# Altium footprint library AUVic_PCB_Library_Switches.PcbLib: 4 footprints
Each footprint in its own frame and in the unit in brackets; x right, y up, seen from the top. Pads: shape width x height; smd on the part's side, far side on the other; paste and mask are expansions set on the pad; w line width, h text height; cw(c..) or ccw(c..) is an arc to the next point about the centre after c.
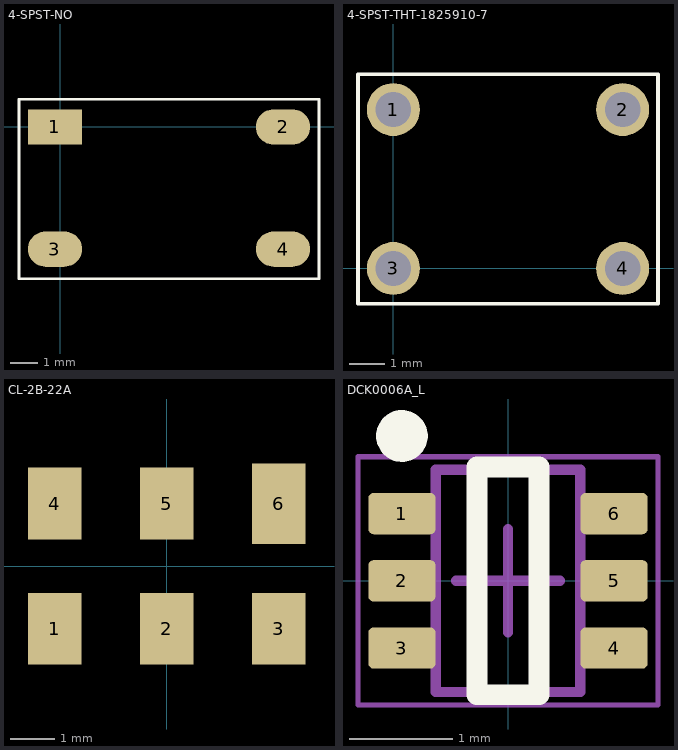
[diagram p0: the footprints below, top view; thin cyan lines are the x and y axes]

## 4-SPST-NO [mm]
pads (4):
  rect 2x1.3 smd: 1(-0.2,0)
  oval 2x1.3 smd: 2(8.2,0) 3(-0.2,-4.5) 4(8.2,-4.5)
Top Overlay:
  lines w0.1: -1.524,-5.588 9.525,-5.588 9.525,1.016 -1.524,1.016 -1.524,-5.588
3D body "User Library-PTS645SL50SMTR92-LFS.STEP": height 5, standoff 0, extent -0.563,-5.286 8.437,0.714

## 4-SPST-THT-1825910-7 [mm]
pads (4):
  round 1.5 hole 1: 1(0,4.5) 2(6.5,4.5) 3(0,0) 4(6.5,0)
Top Overlay:
  lines w0.1: -1,-1 7.5,-1 7.5,5.5 -1,5.5 -1,-1
3D body "User Library-SW-TACTILE-X6Y6H3.STEP": height 7, standoff -3.5, extent -0.65,-0.9 7.25,5.3

## CL-2B-22A [mm]
pads (6):
  rect 1.2x1.6 smd: 1(-2.5,-1.4) 2(0,-1.4) 3(2.5,-1.4) 4(-2.5,1.4) 5(0,1.4)
  rect 1.2x1.8 smd: 6(2.5,1.4)

## DCK0006A_L [mm] "SOT23, 6-Leads, Body 2.15x1.4mm, Pitch 0.65mm, IPC High Density"
height 1.1
pads (6):
  rrect25% 0.65x0.4 smd: 1(-1.025,0.65) 2(-1.025,0) 3(-1.025,-0.65) 4(1.025,-0.65) 5(1.025,0) 6(1.025,0.65)
Top Overlay:
  circle w0.25: c-1.025,1.4 r0.125
  lines w0.2: -0.3,-1.1 0.3,-1.1 0.3,1.1 -0.3,1.1 -0.3,-1.1
Mechanical 1:
  text ".Designator" at -0.635,-0.127 h0.3
Body Top:
  lines w0.1: -0.7,-1.075 -0.7,1.075 0.7,1.075 0.7,-1.075 -0.7,-1.075
Courtyard Top:
  lines w0.05: -1.45,-1.2 -1.45,1.2 1.45,1.2 1.45,-1.2 -1.45,-1.2
  lines w0.1: -0.5,0 0.5,0 ; 0,-0.5 0,0.5
3D body "DCK0006AakaMAA06.stp": height 0.94, standoff -0.01, extent -1.14,-1 1.14,1